# Altium schematic symbol library xPMU_lib.SchLib: 5 symbols
Pins are listed as number, name and electrical type; pins without a type are passive.

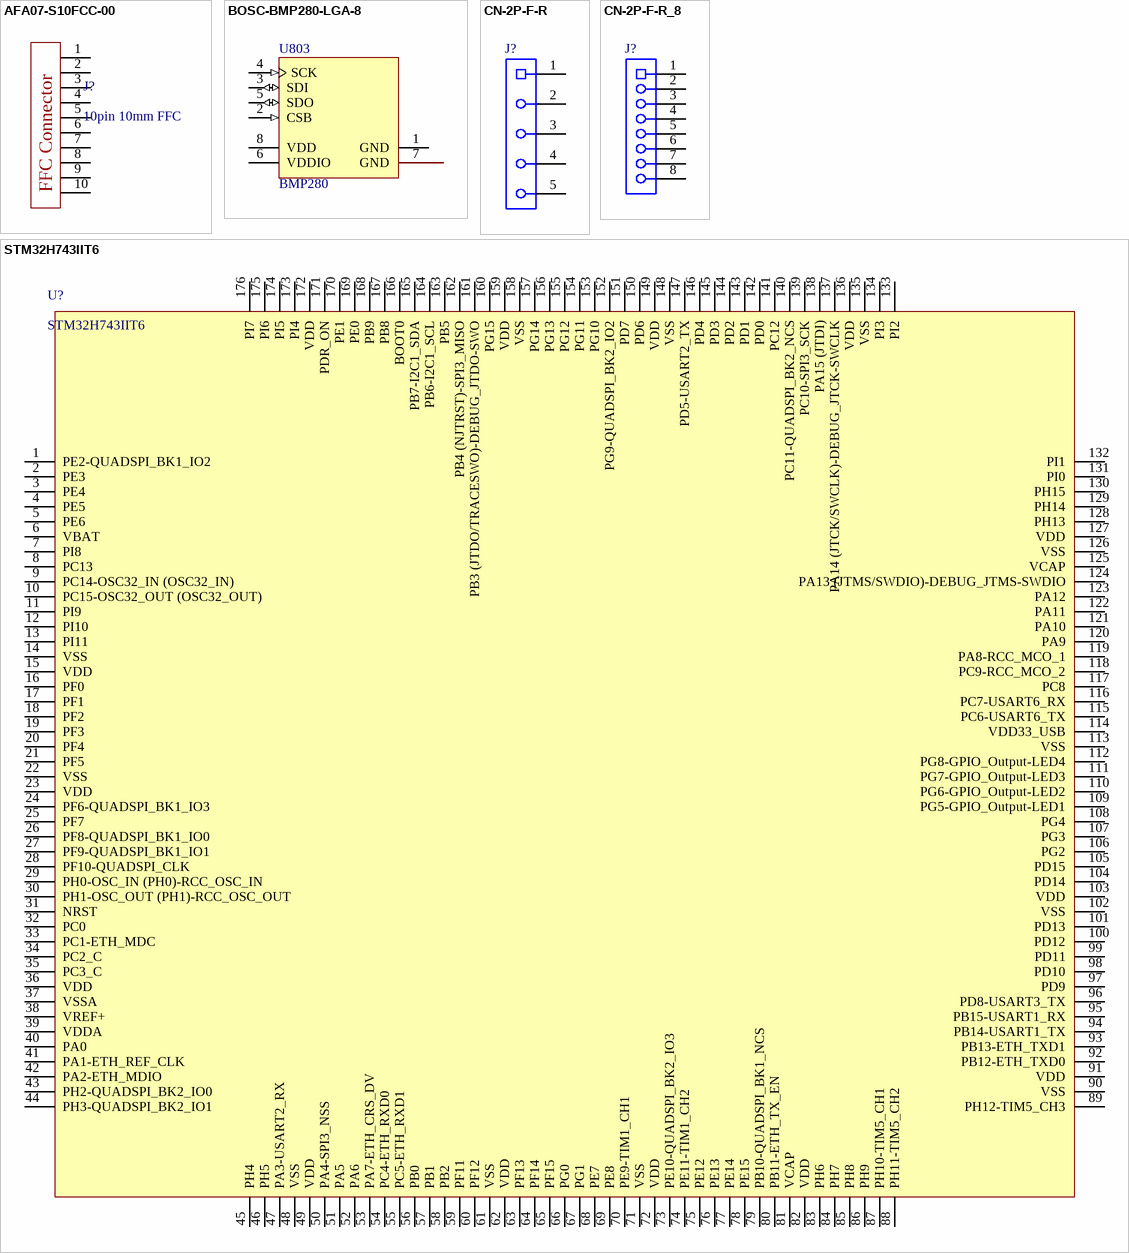
[diagram p0: symbols AFA07-S10FCC-00 to STM32H743IIT6]

## AFA07-S10FCC-00
designator J?, comment 10pin 10mm FFC
FPC Contact,Bottom 10 0.039"（1.00mm） 1.0mm FFC, FPC Connectors RoHS; SuppliersPartNumber: C52162
footprint AFA07-S10FCC-00 (10pin 1.0mm FFC Connector)
pins: 1, 2, 3, 4, 5, 6, 7, 8, 9, 10
text: FFC Connector

## BOSC-BMP280-LGA-8
designator U803, comment BMP280
Digital Pressure Sensor, 1.71 to 3.6 V, -40 to 85 degC, 8-Pin LGA, RoHS, Tape and Reel; Manufacturer: Bosch Sensortec; Manufacturer URL: http://www.bosch-sensortec.com; Datasheet URL: http://datasheet.octopart.com/BMP280-Bosch-datasheet-41546027.pdf; Datasheet Version: Rev. 1.14, 05/2015; SuppliersPartNumber: C83291
footprint BOSC-LGA-8_V (LGA, 8-Leads, Body 2.5x2mm, Pitch 0.65mm)
footprint BOSC-LGA-8_V_LARGE (LGA, 8-Leads, Body 2.5x2mm, Pitch 0.65mm)
pins: 1 GND (power) "Ground", 2 CSB (in) "Chip select", 3 SDI (io) "Serial data input", 4 SCK (in) "Serial clock input", 5 SDO (io) "Serial data output", 6 VDDIO (power) "Digital interface supply", 7 GND (power) "Ground", 8 VDD (power) "Analog supply"

## CN-2P-F-R
designator J?
5 Way - 10.16 block; JLCPCB: NO
footprint PHOE-1729128-2_V (Receptacle, 2-Leads, Body 8.1x10.16mm, Pitch 5.08mm)
pins: 1, 2, 3, 4, 5

## CN-2P-F-R_8
designator J?
8way - 5.08 block; JLCPCB: NO
footprint PHOE-8way (Receptacle, 2-Leads, Body 8.1x10.16mm, Pitch 5.08mm)
pins: 1, 2, 3, 4, 5, 6, 7, 8

## STM32H743IIT6
designator U?
ST MICROELECTRONICS LQFP-176_24X24X05P ROHS; SuppliersPartNumber: C89597
footprint Quad176
pins: 1 PE2-QUADSPI_BK1_IO2, 2 PE3, 3 PE4, 4 PE5, 5 PE6, 6 VBAT, 7 PI8, 8 PC13, 9 PC14-OSC32_IN (OSC32_IN), 10 PC15-OSC32_OUT (OSC32_OUT), 11 PI9, 12 PI10, 13 PI11, 14 VSS, 15 VDD, 16 PF0, 17 PF1, 18 PF2, 19 PF3, 20 PF4, 21 PF5, 22 VSS, 23 VDD, 24 PF6-QUADSPI_BK1_IO3, 25 PF7, 26 PF8-QUADSPI_BK1_IO0, 27 PF9-QUADSPI_BK1_IO1, 28 PF10-QUADSPI_CLK, 29 PH0-OSC_IN (PH0)-RCC_OSC_IN, 30 PH1-OSC_OUT (PH1)-RCC_OSC_OUT, 31 NRST, 32 PC0, 33 PC1-ETH_MDC, 34 PC2_C, 35 PC3_C, 36 VDD, 37 VSSA, 38 VREF+, 39 VDDA, 40 PA0, 41 PA1-ETH_REF_CLK, 42 PA2-ETH_MDIO, 43 PH2-QUADSPI_BK2_IO0, 44 PH3-QUADSPI_BK2_IO1, 45 PH4, 46 PH5, 47 PA3-USART2_RX, 48 VSS, 49 VDD, 50 PA4-SPI3_NSS, 51 PA5, 52 PA6, 53 PA7-ETH_CRS_DV, 54 PC4-ETH_RXD0, 55 PC5-ETH_RXD1, 56 PB0, 57 PB1, 58 PB2, 59 PF11, 60 PF12, 61 VSS, 62 VDD, 63 PF13, 64 PF14, 65 PF15, 66 PG0, 67 PG1, 68 PE7, 69 PE8, 70 PE9-TIM1_CH1, 71 VSS, 72 VDD, 73 PE10-QUADSPI_BK2_IO3, 74 PE11-TIM1_CH2, 75 PE12, 76 PE13, 77 PE14, 78 PE15, 79 PB10-QUADSPI_BK1_NCS, 80 PB11-ETH_TX_EN, 81 VCAP, 82 VDD, 83 PH6, 84 PH7, 85 PH8, 86 PH9, 87 PH10-TIM5_CH1, 88 PH11-TIM5_CH2, 89 PH12-TIM5_CH3, 90 VSS, 91 VDD, 92 PB12-ETH_TXD0, 93 PB13-ETH_TXD1, 94 PB14-USART1_TX, 95 PB15-USART1_RX, 96 PD8-USART3_TX, 97 PD9, 98 PD10, 99 PD11, 100 PD12, 101 PD13, 102 VSS, 103 VDD, 104 PD14, 105 PD15, 106 PG2, 107 PG3, 108 PG4, 109 PG5-GPIO_Output-LED1, 110 PG6-GPIO_Output-LED2, 111 PG7-GPIO_Output-LED3, 112 PG8-GPIO_Output-LED4, 113 VSS, 114 VDD33_USB, 115 PC6-USART6_TX, 116 PC7-USART6_RX, 117 PC8, 118 PC9-RCC_MCO_2, 119 PA8-RCC_MCO_1, 120 PA9, 121 PA10, 122 PA11, 123 PA12, 124 PA13 (JTMS/SWDIO)-DEBUG_JTMS-SWDIO, 125 VCAP, 126 VSS, 127 VDD, 128 PH13, 129 PH14, 130 PH15, 131 PI0, 132 PI1, 133 PI2, 134 PI3, 135 VSS, 136 VDD, 137 PA14 (JTCK/SWCLK)-DEBUG_JTCK-SWCLK, 138 PA15 (JTDI), 139 PC10-SPI3_SCK, 140 PC11-QUADSPI_BK2_NCS, 141 PC12, 142 PD0, 143 PD1, 144 PD2, 145 PD3, 146 PD4, 147 PD5-USART2_TX, 148 VSS, 149 VDD, 150 PD6, 151 PD7, 152 PG9-QUADSPI_BK2_IO2, 153 PG10, 154 PG11, 155 PG12, 156 PG13, 157 PG14, 158 VSS, 159 VDD, 160 PG15, 161 PB3 (JTDO/TRACESWO)-DEBUG_JTDO-SWO, 162 PB4 (NJTRST)-SPI3_MISO, 163 PB5, 164 PB6-I2C1_SCL, 165 PB7-I2C1_SDA, 166 BOOT0, 167 PB8, 168 PB9, 169 PE0, 170 PE1, 171 PDR_ON, 172 VDD, 173 PI4, 174 PI5, 175 PI6, 176 PI7